# Altium schematic symbol library 5.0 - 接插件-脚距1.00.SchLib: 2 symbols
Pins are listed as number, name and electrical type; pins without a type are passive.

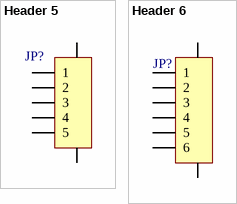
[diagram p0: symbols Header 5 to Header 6]

## Header 5
designator JP?, comment HDR-1X5  (value not drawn)
5P接插件; 1.库作者: 冰凌猫; 2.库版本: v2.0 (2021.03.30); 3.交流分享: Q群514746572,开源更新,欢迎一起交流学习PCB设计; 4.作者声明: 旨为整合最全库集,欢迎转载,禁止商用！-冰凌猫; 5.备注说明: 该库已二次整合过网上各热销库,基本最全,无需重复搜购安装; 0.0_BOM名称: 5P接插件
footprint SH 1.0-LS-5P
footprint SH 1.0-WS-5P
pins: 0, 0, 1, 2, 3, 4, 5

## Header 6
designator JP?, comment HDR-1X6  (value not drawn)
6P接插件; 1.库作者: 冰凌猫; 2.库版本: v2.0 (2021.03.30); 3.交流分享: Q群514746572,开源更新,欢迎一起交流学习PCB设计; 4.作者声明: 旨为整合最全库集,欢迎转载,禁止商用！-冰凌猫; 5.备注说明: 该库已二次整合过网上各热销库,基本最全,无需重复搜购安装; 0.0_BOM名称: 6P接插件
footprint SH 1.0-LS-6P
footprint SH 1.0-WS-6P
pins: 0, 0, 1, 2, 3, 4, 5, 6